# EAGLE library part BTS_MODULE (library btn module)
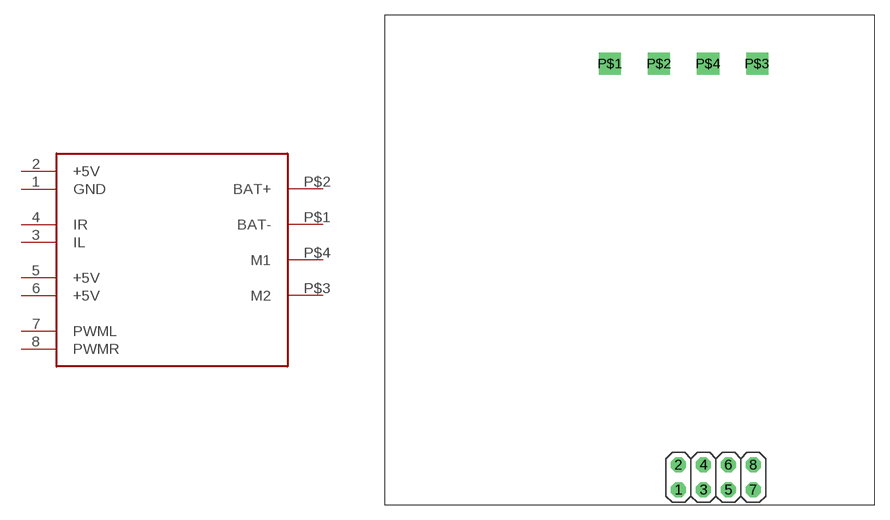
[diagram p0: symbol with the pads of BTS_MODULE; footprint BTS_MODULE]

Designator prefix -

## BTS_MODULE  [BTS_MODULE]
1  GND
2  +5V
3  IL
4  IR
5  +5V
6  +5V
7  PWML
8  PWMR
P$1  BAT-
P$2  BAT+
P$3  M2
P$4  M1

## Footprint BTS_MODULE (pad centres in mm)
drill 1.016 octagon: 1 4.99,-24.47; 2 4.99,-21.93; 3 7.53,-24.47; 4 7.53,-21.93; 5 10.07,-24.47; 6 10.07,-21.93; 7 12.61,-24.47; 8 12.61,-21.93
drill 1.5 square: P$1 -2,19; P$2 3,19; P$3 13,19; P$4 8,19